# EAGLE library part PSOC5 (library PSoC5 Module)
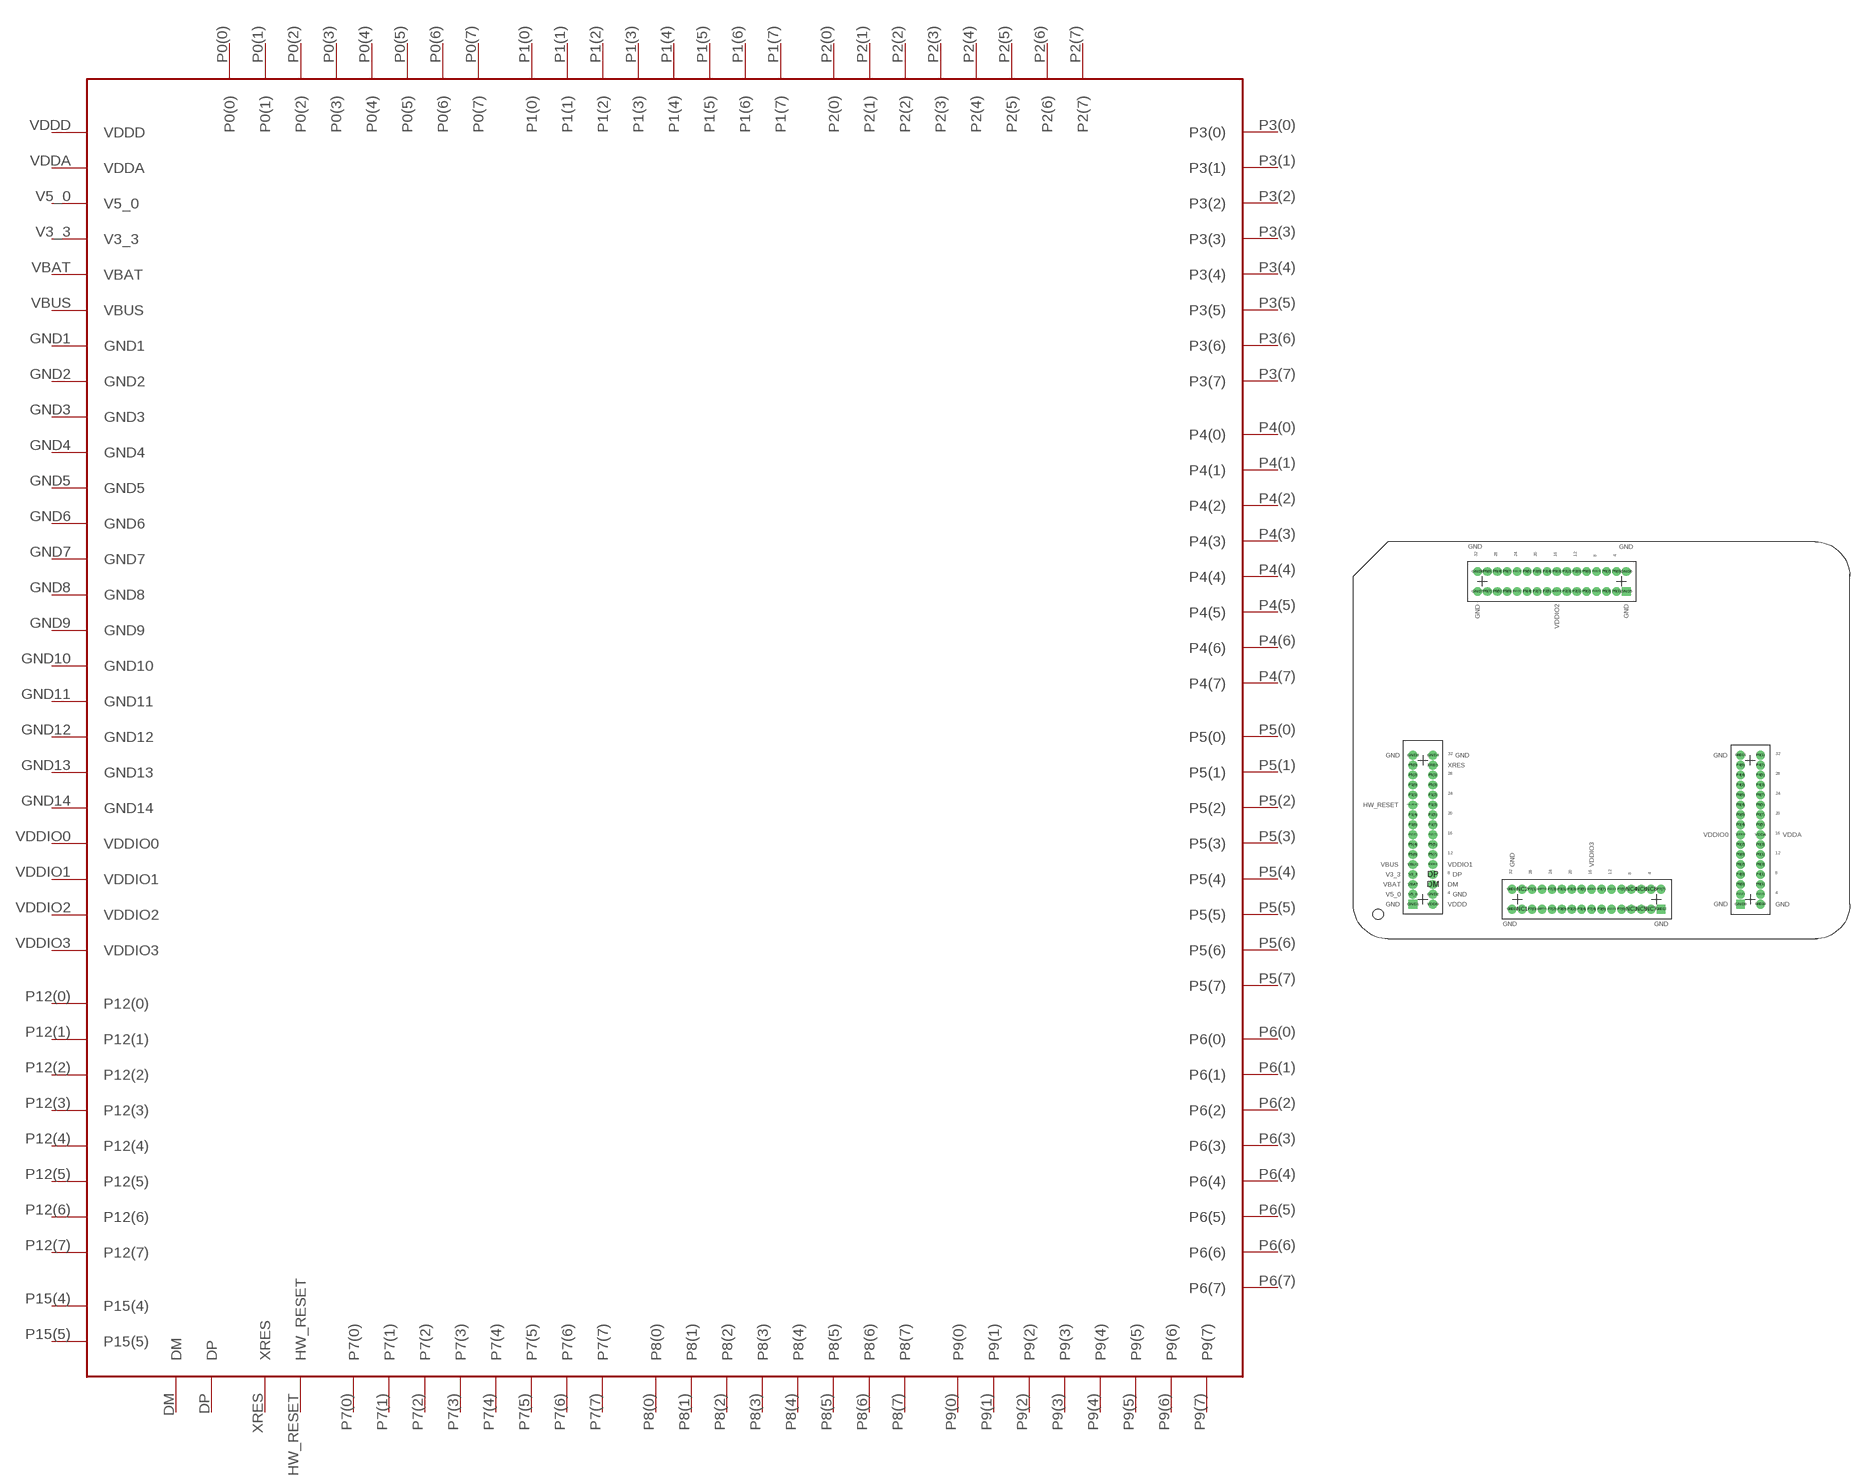
[diagram p0: symbol with the pads of PSOC5; footprint PSOC5]

Designator prefix -

## PSOC5  [PSOC5]
DM  DM
DP  DP
GND1  GND1
GND2  GND2
GND3  GND3
GND4  GND4
GND5  GND5
GND6  GND6
GND7  GND7
GND8  GND8
GND9  GND9
GND10  GND10
GND11  GND11
GND12  GND12
GND13  GND13
GND14  GND14
HW_RESET  HW_RESET
P0(0)  P0(0)
P0(1)  P0(1)
P0(2)  P0(2)
P0(3)  P0(3)
P0(4)  P0(4)
P0(5)  P0(5)
P0(6)  P0(6)
P0(7)  P0(7)
P1(0)  P1(0)
P1(1)  P1(1)
P1(2)  P1(2)
P1(3)  P1(3)
P1(4)  P1(4)
P1(5)  P1(5)
P1(6)  P1(6)
P1(7)  P1(7)
P2(0)  P2(0)
P2(1)  P2(1)
P2(2)  P2(2)
P2(3)  P2(3)
P2(4)  P2(4)
P2(5)  P2(5)
P2(6)  P2(6)
P2(7)  P2(7)
P3(0)  P3(0)
P3(1)  P3(1)
P3(2)  P3(2)
P3(3)  P3(3)
P3(4)  P3(4)
P3(5)  P3(5)
P3(6)  P3(6)
P3(7)  P3(7)
P4(0)  P4(0)
P4(1)  P4(1)
P4(2)  P4(2)
P4(3)  P4(3)
P4(4)  P4(4)
P4(5)  P4(5)
P4(6)  P4(6)
P4(7)  P4(7)
P5(0)  P5(0)
P5(1)  P5(1)
P5(2)  P5(2)
P5(3)  P5(3)
P5(4)  P5(4)
P5(5)  P5(5)
P5(6)  P5(6)
P5(7)  P5(7)
P6(0)  P6(0)
P6(1)  P6(1)
P6(2)  P6(2)
P6(3)  P6(3)
P6(4)  P6(4)
P6(5)  P6(5)
P6(6)  P6(6)
P6(7)  P6(7)
P7(0)  P7(0)
P7(1)  P7(1)
P7(2)  P7(2)
P7(3)  P7(3)
P7(4)  P7(4)
P7(5)  P7(5)
P7(6)  P7(6)
P7(7)  P7(7)
P8(0)  P8(0)
P8(1)  P8(1)
P8(2)  P8(2)
P8(3)  P8(3)
P8(4)  P8(4)
P8(5)  P8(5)
P8(6)  P8(6)
P8(7)  P8(7)
P9(0)  P9(0)
P9(1)  P9(1)
P9(2)  P9(2)
P9(3)  P9(3)
P9(4)  P9(4)
P9(5)  P9(5)
P9(6)  P9(6)
P9(7)  P9(7)
P12(0)  P12(0)
P12(1)  P12(1)
P12(2)  P12(2)
P12(3)  P12(3)
P12(4)  P12(4)
P12(5)  P12(5)
P12(6)  P12(6)
P12(7)  P12(7)
P15(4)  P15(4)
P15(5)  P15(5)
V3_3  V3_3
V5_0  V5_0
VBAT  VBAT
VBUS  VBUS
VDDA  VDDA
VDDD  VDDD
VDDIO0  VDDIO0
VDDIO1  VDDIO1
VDDIO2  VDDIO2
VDDIO3  VDDIO3
XRES  XRES

## Footprint PSOC5 (pad centres in mm)
drill 0.6: DM 1.27,1.905; DP 1.27,3.175; EMPTY1 15.24,-1.27; EMPTY2 15.24,1.27; GND2 1.27,0.635; GND3 -1.27,18.415; GND4 1.27,18.415; GND6 26.035,41.91; GND7 6.985,39.37; GND8 6.985,41.91; GND10 43.18,-0.635; GND11 40.64,18.415; GND13 11.43,-1.27; GND14 11.43,1.27; HW_RESET -1.27,12.065; NC1 12.7,-1.27; NC2 12.7,1.27; NC3 26.67,-1.27; NC4 26.67,1.27; NC5 27.94,-1.27; NC6 27.94,1.27; NC7 29.21,-1.27; NC8 29.21,1.27; P0(0) 40.64,5.715; P0(1) 43.18,5.715; P0(2) 40.64,6.985; P0(3) 43.18,6.985; P0(4) 40.64,9.525; P0(5) 43.18,9.525; P0(6) 40.64,10.795; P0(7) 43.18,10.795; P1(0) -1.27,14.605; P1(1) -1.27,13.335; P1(2) 1.27,13.335; P1(3) 1.27,12.065; P1(4) -1.27,10.795; P1(5) 1.27,10.795; P1(6) -1.27,9.525; P1(7) 1.27,9.525; P2(0) 19.685,41.91; P2(1) 19.685,39.37; P2(2) 18.415,41.91; P2(3) 18.415,39.37; P2(4) 15.875,41.91; P2(5) 15.875,39.37; P2(6) 14.605,41.91; P2(7) 14.605,39.37; P3(0) 17.78,-1.27; P3(1) 17.78,1.27; P3(2) 19.05,-1.27; P3(3) 19.05,1.27; P3(4) 20.32,-1.27; P3(5) 20.32,1.27; P3(6) 22.86,-1.27; P3(7) 22.86,1.27; P4(0) 40.64,3.175; P4(1) 43.18,3.175; P4(2) 40.64,14.605; P4(3) 43.18,14.605; P4(4) 40.64,15.875; P4(5) 43.18,15.875; P4(6) 40.64,17.145; P4(7) 43.18,17.145; P5(0) -1.27,17.145; P5(1) 1.27,15.875; P5(2) -1.27,15.875; P5(3) 1.27,14.605; P5(4) -1.27,6.985; P5(5) 1.27,6.985; P5(6) -1.27,5.715; P5(7) 1.27,5.715; P6(0) 24.765,41.91; P6(1) 24.765,39.37; P6(2) 23.495,41.91; P6(3) 23.495,39.37; P6(4) 9.525,41.91; P6(5) 9.525,39.37; P6(6) 8.255,41.91; P6(7) 8.255,39.37; P7(0) 13.97,-1.27; P7(1) 13.97,1.27; P7(2) 16.51,-1.27; P7(3) 16.51,1.27; P7(4) 21.59,-1.27; P7(5) 25.4,1.27; P7(6) 25.4,-1.27; P7(7) 30.48,1.27; P8(0) 40.64,1.905; P8(1) 43.18,1.905; P8(2) 40.64,4.445; P8(3) 43.18,4.445; P8(4) 40.64,12.065; P8(5) 43.18,12.065; P8(6) 40.64,13.335; P8(7) 43.18,13.335; P9(0) 20.955,41.91; P9(1) 43.18,18.415; P9(2) 20.955,39.37; P9(3) 17.145,41.91; P9(4) 13.335,39.37; P9(5) 13.335,41.91; P9(6) 10.795,39.37; P9(7) 10.795,41.91; P12(0) 24.13,-1.27; P12(1) 24.13,1.27; P12(2) 40.64,0.635; P12(3) 43.18,0.635; P12(4) 12.065,41.91; P12(5) 12.065,39.37; P12(6) -1.27,8.255; P12(7) 1.27,8.255; P15(4) 22.225,41.91; P15(5) 22.225,39.37; V3_3 -1.27,3.175; V5_0 -1.27,0.635; VBAT -1.27,1.905; VBUS -1.27,4.445; VDDA 43.18,8.255; VDDD 1.27,-0.635; VDDIO0 40.64,8.255; VDDIO1 1.27,4.445; VDDIO2 17.145,39.37; VDDIO3 21.59,1.27; XRES 1.27,17.145
drill 0.6 square: GND1 -1.27,-0.635; GND5 26.035,39.37; GND9 40.64,-0.635; GND12 30.48,-1.27
hole 1.3 at -5.715,-1.905